# EAGLE library part CHESSLIB_MCP1642B (library ChessComputer)
MCP1642B http://ww1.microchip.com/downloads/en/DeviceDoc/20005253A.pdf digikey: MCP1642B-50I/MS-ND
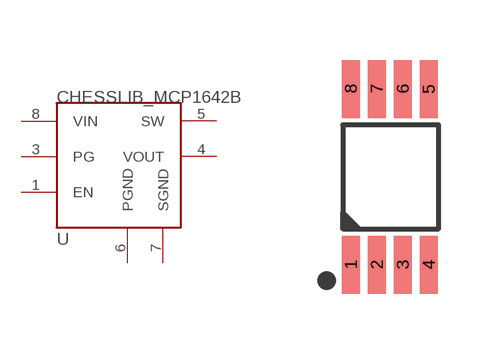
[diagram p1: symbol with the pads of CHESSLIB_MSOP8; footprint CHESSLIB_MSOP8]

Designator prefix U

## CHESSLIB_MCP1642B  [CHESSLIB_MSOP8]
1  EN
3  PG
4  VOUT
5  SW
6  PGND
7  SGND
8  VIN

## Footprint CHESSLIB_MSOP8 (pad centres in mm)
Micro Small Outline Package Grid .65mm
smd 0.45 x 1.45: 1 0,-4.4; 2 0.65,-4.4; 3 1.3,-4.4; 4 1.95,-4.4; 5 1.95,0; 6 1.3,0; 7 0.65,0; 8 0,0